# Altium footprint library Passives.PcbLib: 75 footprints (part 5 of 5)
Each footprint in its own frame and in the unit in brackets; x right, y up, seen from the top. Pads: shape width x height; smd on the part's side, far side on the other; paste and mask are expansions set on the pad; w line width, h text height; cw(c..) or ccw(c..) is an arc to the next point about the centre after c.
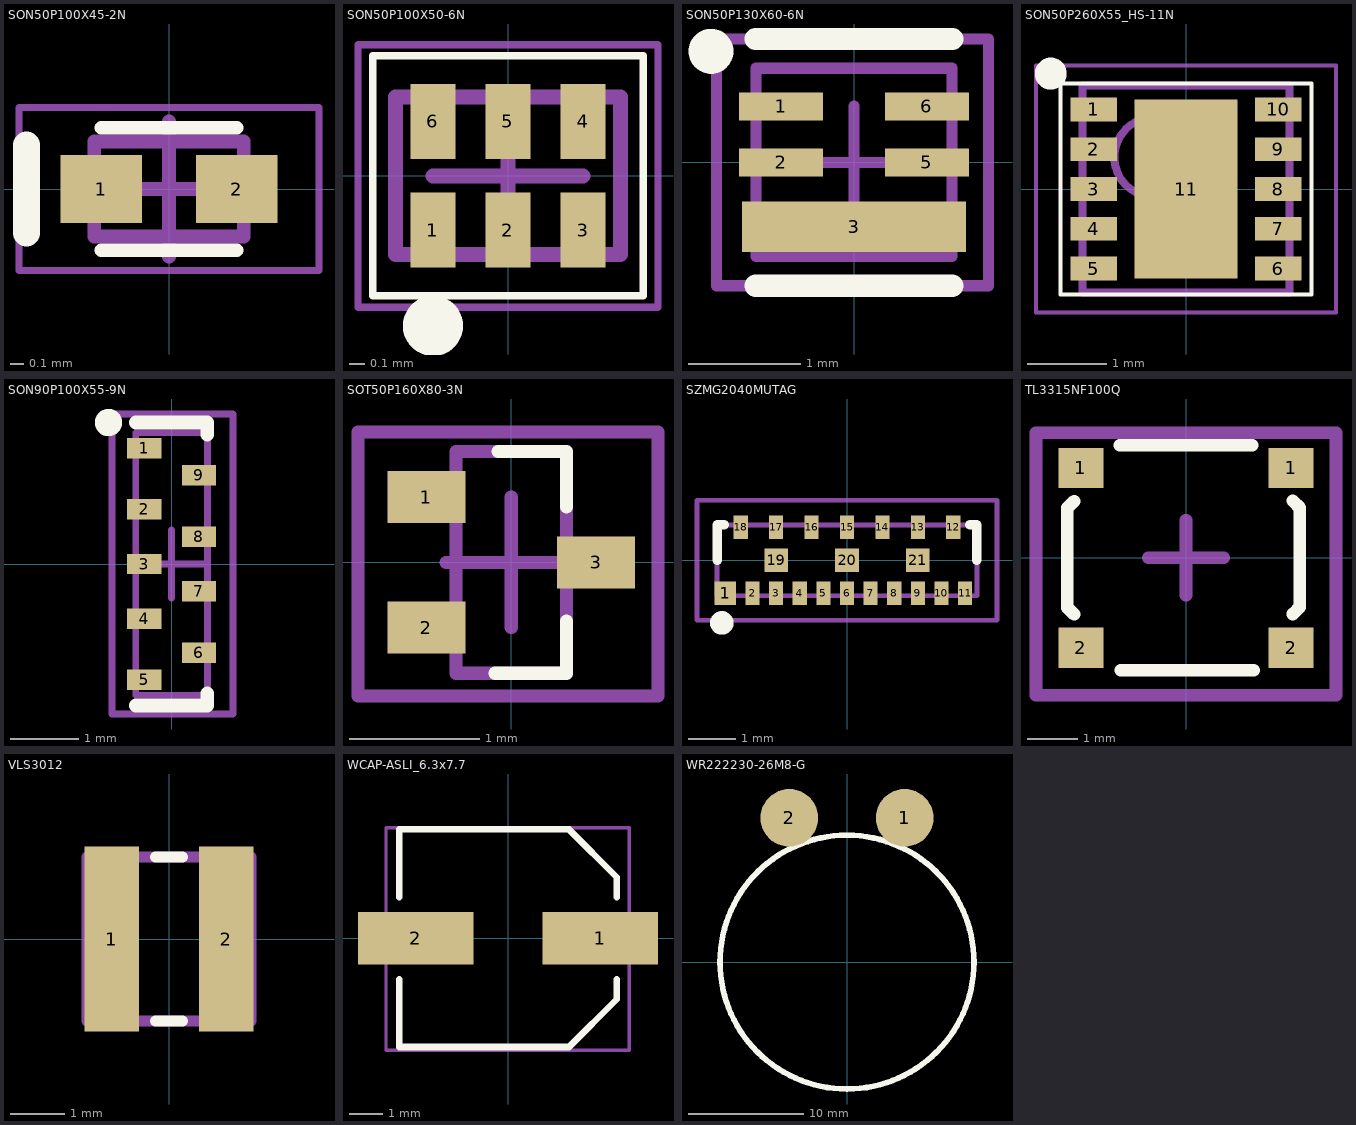
[diagram p4: the footprints below, top view; thin cyan lines are the x and y axes]

## SON50P100X45-2N [mm] "SON, 2-Leads, Body 0.60x1.00mm, Pitch 0.50mm, IPC Medium Density"
height 0.45
pads (2):
  rect 0.6x0.5 smd mask+0.05: 1(-0.5,0) 2(0.5,0)
Top Overlay:
  lines w0.1: -0.5,-0.45 0.5,-0.45 ; -0.5,0.45 0.5,0.45
  lines w0.2: -1.05,-0.325 -1.05,0.325
Top 3D Body:
  lines w0.1: -0.55,-0.35 0.55,-0.35 0.55,0.35 -0.55,0.35 -0.55,-0.35
Top Assembly:
  lines w0.05: -1.105,-0.6 -1.105,0.6 1.105,0.6 1.105,-0.6 -1.105,-0.6
  lines w0.1: -0.5,0 0.5,0 ; 0,-0.5 0,0.5
Top Courtyard:
  lines w0.05: -1.105,-0.6 1.105,-0.6 1.105,0.6 -1.105,0.6 -1.105,-0.6
  text ".Designator" at -0.325,-0.175 h0.4
3D body "SON50P100X45-2N.step": height 0.45, standoff 0, extent -0.56,-0.35 0.56,0.35

## SON50P100X50-6N [mm] "SON, 6-Leads, Body 1.45x1.00mm, Pitch 0.50mm, IPC Medium Density"
height 0.5
pads (6):
  rect 0.3x0.5 smd mask+0.05: 1(-0.5,-0.362) 2(0,-0.362) 3(0.5,-0.362) 4(0.5,0.363) 5(0,0.363) 6(-0.5,0.363)
Top Overlay:
  circle w0.3: c-0.5,-1 r0.05
  lines w0.05: -0.9,-0.8 0.9,-0.8 0.9,0.8 -0.9,0.8 -0.9,-0.8
Top 3D Body:
  lines w0.1: -0.75,-0.525 0.75,-0.525 0.75,0.525 -0.75,0.525 -0.75,-0.525
Top Assembly:
  lines w0.05: -1,-0.875 -1,0.875 1,0.875 1,-0.875 -1,-0.875
  lines w0.1: -0.5,0 0.5,0 ; 0,-0.5 0,0.5
Top Courtyard:
  lines w0.05: -1,-0.875 -1,0.875 1,0.875 1,-0.875 -1,-0.875
  text ".Designator" at -0.325,-0.175 h0.4
3D body "SON50P100X50-6N.step": height 0.5, standoff 0, extent -0.75,-0.535 0.75,0.535

## SON50P130X60-6N [mm] "SON, 6-Leads, Body 1.61x1.35mm, Pitch 0.50mm, IPC Medium Density"
height 0.61
pads (5):
  rect 0.75x0.25 smd: 1(-0.65,0.5) 2(-0.65,0) 5(0.65,0) 6(0.65,0.5)
  rect 2x0.45 smd paste-100: 3(0,-0.575)
Top Overlay:
  circle w0.3: c-1.275,0.99 r0.05
  lines w0.2: -0.875,-1.1 0.875,-1.1 ; -0.875,1.1 0.875,1.1
Top Paste:
  region: 0.275,-0.35 1,-0.35 1,-0.8 0.275,-0.8
  region: -1,-0.35 -0.225,-0.35 -0.225,-0.8 -1,-0.8
Top 3D Body:
  lines w0.1: -0.875,-0.84 -0.875,0.84 0.875,0.84 0.875,-0.84 -0.875,-0.84
Top Assembly:
  lines w0.1: -0.5,0 0.5,0 ; 0,-0.5 0,0.5 ; -1.225,-1.1 -1.225,1.1 1.2,1.1 1.2,-1.1 -1.225,-1.1
Top Courtyard:
  lines w0.1: -1.225,-1.1 1.2,-1.1 1.2,1.1 -1.225,1.1 -1.225,-1.1
  text ".Designator" at -1.121,-0.131 h0.5
3D body "SON50P130X60-6N.step": height 0.61, standoff 0, extent -0.876,-0.84 0.876,0.84

## SON50P260X55_HS-11N [mm] "SON, 10-Leads, Body 2.60x2.60mm, Pitch 0.50mm, Thermal Pad 2.39x0.44mm, IPC Medium Density"
height 0.55
pads (11):
  rect 0.58x0.3 smd mask+0.05: 1(-1.16,1) 2(-1.16,0.5) 3(-1.16,0) 4(-1.16,-0.5) 5(-1.16,-1) 6(1.16,-1) 7(1.16,-0.5) 8(1.16,0) 9(1.16,0.5) 10(1.16,1)
  rect 1.3x2.25 smd mask+0.05: 11(0,0)
Top Overlay:
  circle w0.3: c-1.7,1.45 r0.05
  lines w0.05: -1.575,-1.325 1.575,-1.325 1.575,1.325 -1.575,1.325 -1.575,-1.325
Top 3D Body:
  circle w0.1: c-0.4,0.4 r0.5
  lines w0.1: -1.3,-1.3 1.3,-1.3 1.3,1.3 -1.3,1.3 -1.3,-1.3
Top Assembly:
  lines w0.05: -1.885,-1.55 -1.885,1.55 1.885,1.55 1.885,-1.55 -1.885,-1.55
  lines w0.1: -0.5,0 0.5,0 ; 0,-0.5 0,0.5
Top Courtyard:
  lines w0.05: -1.885,-1.55 -1.885,1.55 1.885,1.55 1.885,-1.55 -1.885,-1.55
  text ".Designator" at -0.35,-0.175 h0.4
3D body "SON50P260X55_HS-11N.step": height 0.55, standoff 0, extent -1.31,-1.3 1.31,1.3

## SON90P100X55-9N [mm] "SON, 9-Leads, Body 3.80x1.00mm, Pitch 0.90mm, IPC Medium Density"
height 0.55
pads (9):
  rect 0.5x0.3 smd: 1(-0.4,1.7) 2(-0.4,0.8) 3(-0.4,0) 4(-0.4,-0.8) 5(-0.4,-1.7) 6(0.4,-1.3) 7(0.4,-0.4) 8(0.4,0.4) 9(0.4,1.3)
Top Overlay:
  circle w0.3: c-0.925,2.075 r0.05
  lines w0.2: -0.525,-2.075 0.525,-2.075 0.525,-1.9 ; -0.525,2.075 0.525,2.075 0.525,1.9
Top 3D Body:
  lines w0.1: -0.525,-1.925 -0.525,1.925 0.525,1.925 0.525,-1.925 -0.525,-1.925
Top Assembly:
  lines w0.1: -0.5,0 0.5,0 ; 0,-0.5 0,0.5 ; -0.875,-2.2 -0.875,2.2 0.9,2.2 0.9,-2.2 -0.875,-2.2
Top Courtyard:
  lines w0.1: -0.875,-2.2 0.9,-2.2 0.9,2.2 -0.875,2.2 -0.875,-2.2
  text ".Designator" at -0.125,0.1 h0.5
3D body "SON90P100X55-9N.step": height 0.55, standoff 0, extent -0.526,-1.925 0.526,1.925

## SOT50P160X80-3N [mm] "SOT23, 3-Leads, Body 1.7x1.8mm (max), Pitch 0.50mm, IPC Medium Density"
height 0.8
pads (3):
  rect 0.6x0.4 smd: 1(-0.65,0.5) 2(-0.65,-0.5) 3(0.65,0)
Top Overlay:
  lines w0.1: -0.125,-0.85 0.425,-0.85 0.425,-0.45 ; -0.1,0.85 0.425,0.85 0.425,0.425
Top 3D Body:
  lines w0.1: -0.425,-0.85 0.425,-0.85 0.425,0.85 -0.425,0.85 -0.425,-0.85
Top Assembly:
  lines w0.1: -0.5,0 0.5,0 ; 0,-0.5 0,0.5 ; -1.175,-1.025 -1.175,1 1.125,1 1.125,-1.025 -1.175,-1.025
Top Courtyard:
  lines w0.1: -1.175,-1.025 1.125,-1.025 1.125,1 -1.175,1 -1.175,-1.025
  text ".Designator" at -0.425,-0.225 h0.5
3D body: height 0.8, standoff 0, extent -0.425,-0.85 0.425,0.85

## SZMG2040MUTAG [mm]
pads (21):
  rect 0.45x0.5 smd mask+0.05: 1(-2.575,-0.7)
  rect 0.3x0.5 smd mask+0.05: 2(-2,-0.7) 3(-1.5,-0.7) 4(-1,-0.7) 5(-0.5,-0.7) 6(0,-0.7) 7(0.5,-0.7) 8(1,-0.7) 9(1.5,-0.7) 10(2,-0.7) 11(2.5,-0.7) 12(2.25,0.7) 13(1.5,0.7) 14(0.75,0.7) 15(0,0.7) 16(-0.75,0.7) 17(-1.5,0.7) 18(-2.25,0.7)
  rect 0.5x0.5 smd mask+0.05: 19(-1.5,0) 20(0,0) 21(1.5,0)
Top Overlay:
  circle w0.3: c-2.65,-1.325 r0.1
  lines w0.2: -2.75,0 -2.75,0.75 -2.6,0.75 ; 2.6,0.75 2.75,0.75 2.75,0
Top 3D Body:
  lines w0.1: -2.75,-0.75 -2.75,0.75 2.75,0.75 2.75,-0.75 -2.75,-0.75
Top Assembly:
  lines w0.1: -3.175,-1.27 -3.175,1.27 3.175,1.27 3.175,-1.27 -3.175,-1.27
Top Courtyard:
  text ".Designator" at -1.875,-0.175 h0.8
3D body "SZMG2040MUTAG.stp": height 0.65, standoff 0, extent -2.755,-0.87 2.75,0.87

## TL3315NF100Q [mm]
pads (4):
  rect 0.9x0.8 smd paste+0: 1(-2.1,1.8) 1(2.1,1.8) 2(-2.1,-1.8) 2(2.1,-1.8)
Top Overlay:
  lines w0.254: -2.237,-1.131 -2.375,-0.994 -2.375,0.994 -2.237,1.131 ; -1.325,2.25 1.325,2.25 ; -1.3,-2.25 1.35,-2.25 ; 2.137,-1.125 2.275,-0.987 2.275,1 2.137,1.138
Top Assembly:
  lines w0.254: -0.75,0 0.75,0 ; 0,-0.75 0,0.75 ; -3,-2.75 3,-2.75 3,2.5 -3,2.5 -3,-2.75
Top Courtyard:
  lines w0.254: -3,-2.75 -3,2.5 3,2.5 3,-2.75 -3,-2.75
  text ".Designator" at -1.25,-0.75 h1.52
3D body "TL3315NFxxxQ.stp": height 0.56, standoff -0.04, extent -2.375,-2.25 2.375,2.25

## VLS3012 [mm]
pads (2):
  rect 1x3.4 smd: 1(-1.05,0) 2(1.05,0)
Top Overlay:
  lines w0.2: -0.25,-1.5 0.25,-1.5 ; -0.25,1.5 0.25,1.5
Top 3D Body:
  lines w0.2: -1.5,-1.5 -1.5,1.5 1.5,1.5 1.5,-1.5 -1.5,-1.5
3D body "VLS3012HBX-2R2M.stp": height 1.2, standoff 0, extent -1.502,-1.509 1.502,1.509

## WCAP-ASLI_6.3x7.7 [mm] "Polarized capacitors, Aluminum Electrolytic Capacitors, 2-Leads, Body 6.3x7.7x2.2"
height 7.7
pads (2):
  rect 3.5x1.6 smd: 1(2.8,0) 2(-2.8,0)
Top Overlay:
  lines w0.2: -3.3,-1.25 -3.3,-3.3 1.85,-3.3 3.3,-1.85 3.3,-1.25 ; -3.3,1.25 -3.3,3.3 1.85,3.3 3.3,1.85 3.3,1.25
Top Courtyard:
  lines w0.1: -3.7,-3.4 3.675,-3.4 3.675,3.35 -3.7,3.35 -3.7,-3.4
  text ".Designator" at -0.4,-0.2 h0.4
3D body "6.3x7.7x2.2.stp": height 7.7, standoff 0, extent -3.65,-3.3 3.65,3.3

## WR222230-26M8-G [mm]
pads (2):
  round 5 smd paste+0: 1(5,12.5) 2(-5,12.5)
Top Overlay:
  circle w0.5: c0,0 r11